# Altium footprint library RHDRRA6W64P254_1X6_1575X851X241P.PcbLib: 1 footprints
Each footprint in its own frame and in the unit in brackets; x right, y up, seen from the top. Pads: shape width x height; smd on the part's side, far side on the other; paste and mask are expansions set on the pad; w line width, h text height; cw(c..) or ccw(c..) is an arc to the next point about the centre after c.
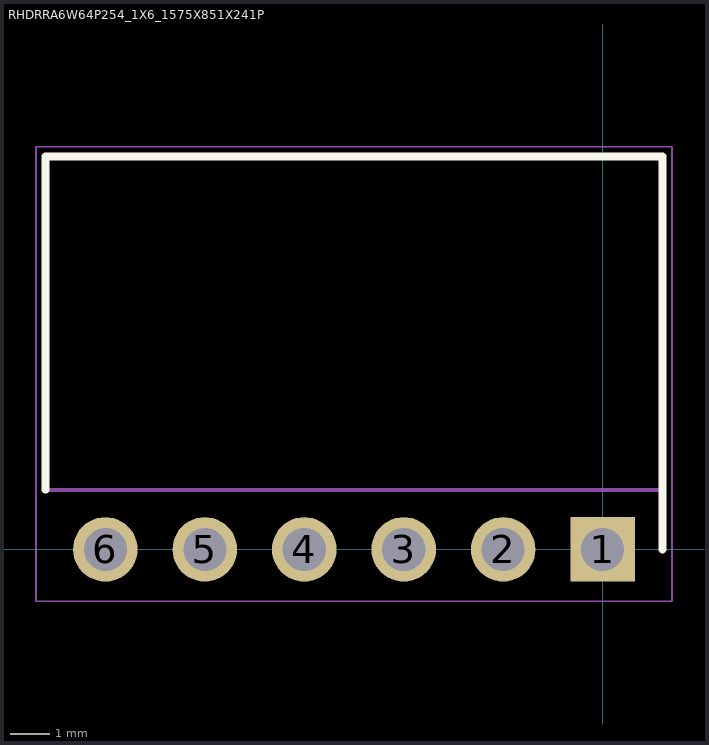
[diagram p0: the footprint, top view; thin cyan lines are the x and y axes]

## RHDRRA6W64P254_1X6_1575X851X241P [mm]
pads (6):
  rect 1.65x1.65 / inner round 1.65 / far side rect 1.65x1.65 hole 1.1: 1(0,0)
  round 1.65 hole 1.1: 2(-2.54,0) 3(-5.08,0) 4(-7.62,0) 5(-10.16,0) 6(-12.7,0)
Top Overlay:
  lines w0.2: -14.225,1.52 -14.225,10.03 1.525,10.03 1.525,0
Mechanical 15:
  lines w0.1: -14.225,1.52 1.525,1.52 1.525,10.03 -14.225,10.03 -14.225,1.52
Mechanical 20:
  lines w0.05: -14.475,-1.325 1.775,-1.325 1.775,10.28 -14.475,10.28 -14.475,-1.325
3D body "SSQ-106-02-G-S-RA.stp": height 5.8, standoff -4.65, extent -10,-3.376 10,3.376